# Altium footprint library PCB1-Exercicios.PcbLib: 4 footprints
Each footprint in its own frame and in the unit in brackets; x right, y up, seen from the top. Pads: shape width x height; smd on the part's side, far side on the other; paste and mask are expansions set on the pad; w line width, h text height; cw(c..) or ccw(c..) is an arc to the next point about the centre after c.
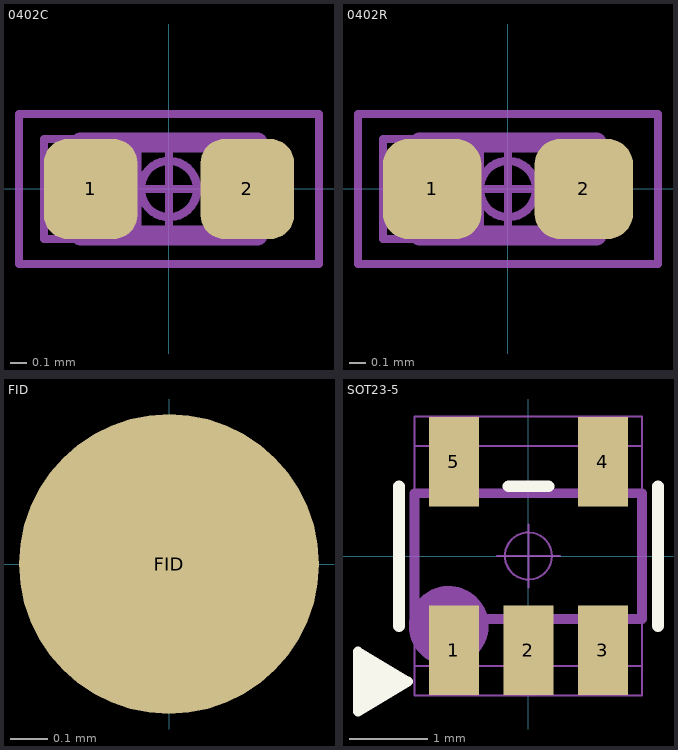
[diagram p0: the footprints below, top view; thin cyan lines are the x and y axes]

## 0402C [mm] "Capacitor, Chip; 1.00 mm L X 0.50 mm W X 0.55 mm H body"
height 0.55
pads (2):
  rrect50% 0.56x0.6 smd mask+0.076: 1(-0.47,0) 2(0.47,0)
Top Courtyard:
  circle w0.05: c0,0 r0.169
  lines w0.05: -0.225,0 0.225,0 ; 0,-0.225 0,0.225 ; -0.9,-0.45 -0.9,0.45 0.9,0.45 0.9,-0.45 -0.9,-0.45
Top Assembly:
  lines w0.12: -0.53,-0.28 -0.53,0.28 0.53,0.28 0.53,-0.28 -0.53,-0.28
Bottom Assembly:
  lines w0.025: -0.5,-0.25 -0.25,-0.25 -0.25,0.25 -0.5,0.25 ; -0.5,-0.25 -0.5,0.25 ; -0.5,-0.25 -0.5,0.25 ; -0.5,-0.25 0.5,-0.25 ; -0.5,0.25 0.5,0.25 ; 0.5,-0.25 0.5,0.25 ; 0.5,-0.25 0.25,-0.25 0.25,0.25 0.5,0.25 ; 0.5,-0.25 0.5,0.25
Mechanical 16:
  text ".Designator" at 0,0 h0.6
Mechanical48:
  lines w0.05: -0.75,-0.3 -0.75,0 -0.75,0.3 -0.19,0.3 -0.19,-0.3 -0.75,-0.3
3D body "CAPC100X50X55L25.STEP": height 0.55, standoff 0, extent -0.5,-0.25 0.5,0.25

## 0402R [mm] "Resistor, Chip; 1.00 mm L X 0.50 mm W X 0.40 mm H body"
height 0.4
pads (2):
  rrect51% 0.59x0.6 smd mask+0.071: 1(-0.455,0) 2(0.455,0)
Top Courtyard:
  circle w0.05: c0,0 r0.169
  lines w0.05: -0.225,0 0.225,0 ; 0,-0.225 0,0.225 ; -0.9,-0.45 0.9,-0.45 0.9,0.45 -0.9,0.45 -0.9,-0.45
Top Assembly:
  lines w0.12: -0.53,-0.28 -0.53,0.28 0.53,0.28 0.53,-0.28 -0.53,-0.28
Bottom Assembly:
  lines w0.025: -0.5,-0.25 -0.25,-0.25 -0.25,0.25 -0.5,0.25 ; -0.5,-0.25 -0.5,0.25 ; -0.5,-0.25 -0.5,0.25 ; -0.5,-0.25 0.5,-0.25 ; -0.5,0.25 0.5,0.25 ; 0.5,-0.25 0.5,0.25 ; 0.5,-0.25 0.25,-0.25 0.25,0.25 0.5,0.25 ; 0.5,-0.25 0.5,0.25
Mechanical 16:
  text ".Designator" at 0,0 h0.5
Mechanical48:
  lines w0.05: -0.75,-0.3 -0.169,-0.3 -0.169,0.3 -0.75,0.3 -0.75,0 -0.75,-0.3
3D body "RESC100X50X40L25.STEP": height 0.4, standoff 0, extent -0.5,-0.25 0.5,0.25

## FID [mm]
height 8.75
pads (1):
  round 0.8 smd paste-1 mask+0.65: FID(0,0)

## SOT23-5 [mil] "SOT23-5"
height 344.49
pads (5):
  rect 25x45 smd: 1(-37.4,-47.24) 2(0,-47.24) 3(37.4,-47.24) 4(37.4,47.24) 5(-37.4,47.24)
Top Overlay:
  lines w5: -71.5,-62 -71.5,-67 -65.5,-63 -74.5,-57 -74.5,-68 -77.5,-70 -77.5,-55 -81.5,-53 -81.5,-73 -85.5,-73 -85.5,-78 ; -85.5,-78 -60.5,-63 -85.5,-48 -85.5,-78
  lines w6: -65,-35 -65,-10 -65,10 -65,35 ; -10,35 10,35 ; 65,-35 65,35
Top Courtyard:
  lines w1: -57.09,-70 -57.09,70 57.09,70 57.09,-70 -57.09,-70
Top Component Center:
  circle w1: c0,0 r11.81
  lines w1: -15.75,0 15.75,0 ; 0,-15.75 0,15.75
Top Assembly:
  lines w1: -57.09,-55.12 -57.09,55.12 57.09,55.12 57.09,-55.12 -57.09,-55.12
Mechanical39:
  circle w20: c-40,-35 r10
  lines w5: -57.09,-31.5 57.09,-31.5 ; -57.09,-30 -57.09,30 ; -57.09,31.5 57.09,31.5 ; -46,-55.12 -29,-55.12 ; -46,-54 -46,-34 ; -46,35 -46,55 ; -46,55.12 -29,55.12 ; -29,-54 -29,-34 ; -29,35 -29,55 ; -8.5,-54 -8.5,-34 ; -8,-55.12 8,-55.12 ; 8.5,-54 8.5,-34 ; 29,-55.12 46,-55.12 ; 29,-55 29,-35 ; 29,35 29,55 ; 29,55.12 46,55.12 ; 46,-55 46,-35 ; 46,35 46,55 ; 57.09,-30 57.09,30
Mechanical42:
  text "5" at -37.4,40.84 h23.62
  text "2" at 0,-53.64 h23.62
  text "3" at 37.4,-53.64 h23.62
  text "4" at 37.4,40.84 h23.62
  text "1" at -37.4,-53.64 h23.62
3D body "SOT23-5P95_275X110L40X37N.STEP": height 43.31, standoff -0.01, extent -57.09,-54.13 57.09,54.14